# Altium footprint library MISC.PcbLib: 28 footprints (part 2 of 2)
Each footprint in its own frame and in the unit in brackets; x right, y up, seen from the top. Pads: shape width x height; smd on the part's side, far side on the other; paste and mask are expansions set on the pad; w line width, h text height; cw(c..) or ccw(c..) is an arc to the next point about the centre after c.
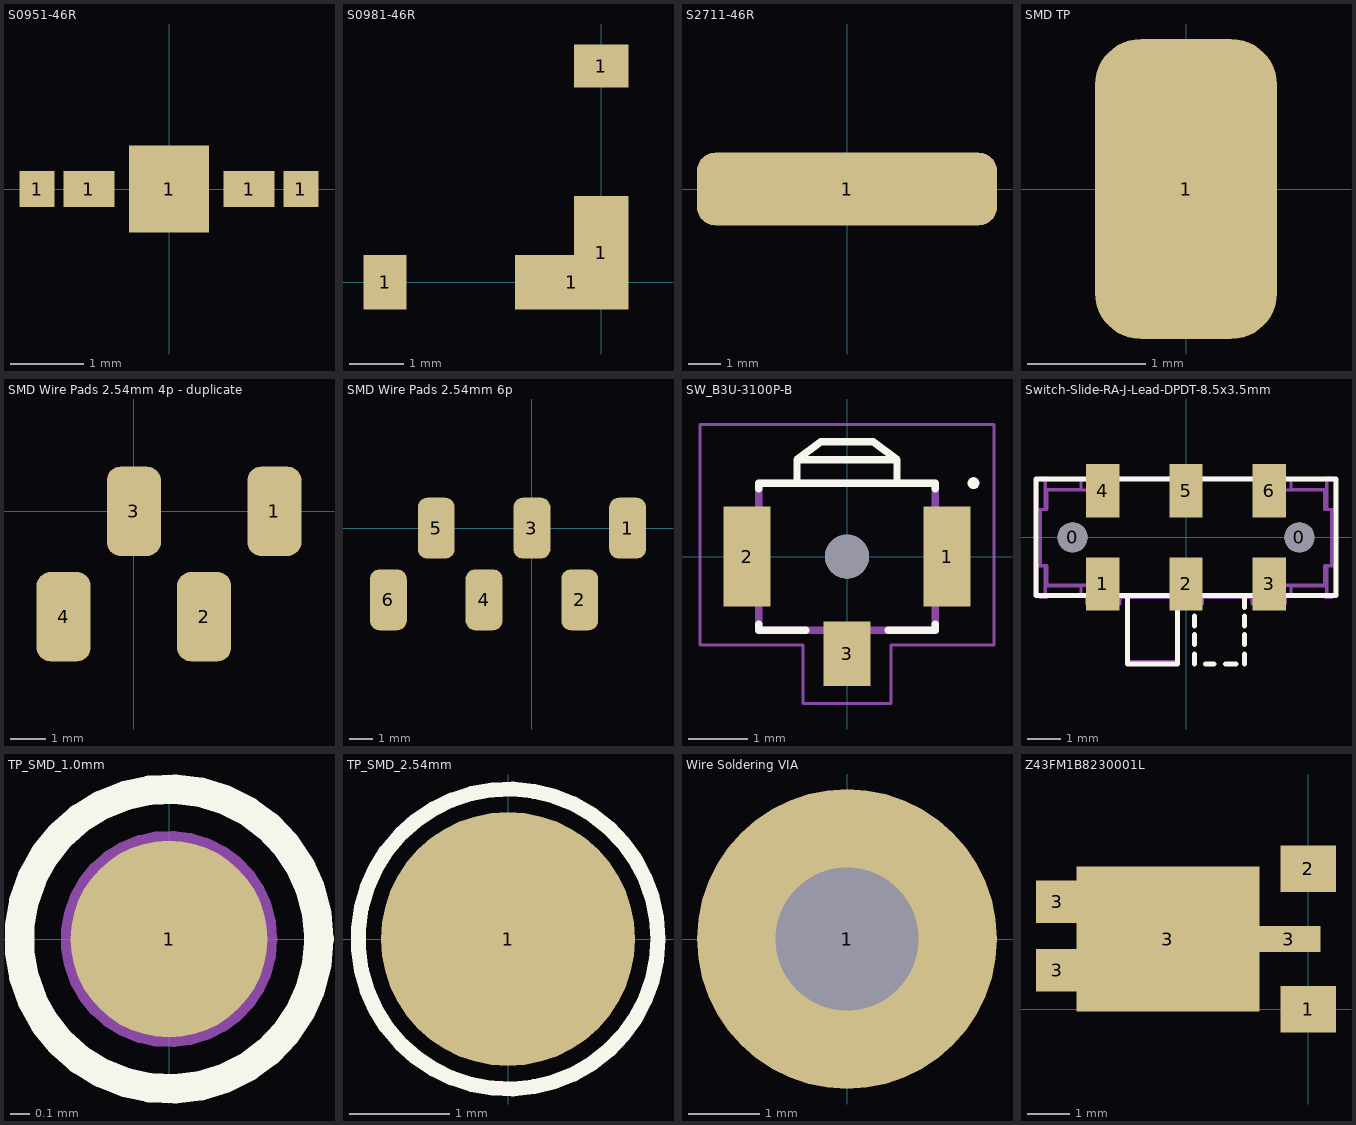
[diagram p1: the footprints below, top view; thin cyan lines are the x and y axes]

## S0951-46R [mm] "Shield Clip"
pads (5):
  rect 0.48x0.5 smd: 1(-1.81,0) 1(1.81,0)
  rect 0.7x0.5 smd: 1(-1.1,0) 1(1.1,0)
  rect 1.1x1.2 smd: 1(0,0)
3D body "s0951-46.stp": height 1.28, standoff 0, extent -1.95,-0.55 1.95,0.55

## S0981-46R [mm] "Shield Clip"
pads (4):
  rect 0.8x1 smd: 1(-4,0)
  rect 2.1x1 smd: 1(-0.55,0)
  rect 1x2.1 smd: 1(0,0.55)
  rect 1x0.8 smd: 1(0,4)
3D body "s0981-46.stp": height 1.35, standoff 0, extent -4.3,-0.455 0.455,4.3

## S2711-46R [mm] "Shielding can clip 0.17mm to 0.3mm"
pads (1):
  rrect50% 9.4x2.28 smd: 1(0,0)
3D body "s2711-46r.stp": height 3.45, standoff 0, extent -4.494,-1.14 4.494,1.14

## SMD TP [mm]
pads (1):
  rrect50% 1.54x2.54 smd: 1(0,0)

## SMD Wire Pads 2.54mm 4p - duplicate [mm]
pads (4):
  rrect50% 1.54x2.54 smd: 1(4,0) 2(2,-3) 3(0,0) 4(-2,-3)

## SMD Wire Pads 2.54mm 6p [mm]
pads (6):
  rrect50% 1.54x2.54 smd: 1(4,0) 2(2,-3) 3(0,0) 4(-2,-3) 5(-4,0) 6(-6,-3)

## SW_B3U-3100P-B [mm]
pads (4):
  rect 0.8x1.7 smd: 1(1.7,0) 2(-1.7,0)
  rect 0.8x1.1 smd: 3(0,-1.65)
  round 0.75 hole 0.75 unplated: ""(0,0)
Top Overlay:
  circle w0.1: c2.15,1.25 r0.05
  lines w0.127: -1.5,-1.15 -1.5,-1.25 -0.7,-1.25 ; -1.5,1.15 -1.5,1.25 -0.85,1.25 ; 0.7,-1.25 1.5,-1.25 1.5,-1.15 ; 1.5,1.15 1.5,1.25 0.85,1.25 ; -0.85,1.25 -0.85,1.65 ; -0.85,1.25 0.85,1.25 ; -0.85,1.65 -0.45,1.95 0.45,1.95 0.85,1.65 ; -0.85,1.65 0.85,1.65 ; 0.85,1.25 0.85,1.65
Mechanical 13:
  lines w0.127: -1.5,-1.25 -1.5,1.25 1.5,1.25 1.5,-1.25 -1.5,-1.25
Mechanical 15:
  lines w0.05: -2.5,-1.5 -2.5,2.25 2.5,2.25 2.5,-1.5 0.75,-1.5 0.75,-2.5 -0.75,-2.5 -0.75,-1.5 -2.5,-1.5
3D body "B3U-3100P-B.step": height 1.2, standoff -0.5, extent -2,-1.9 2,1.95

## Switch-Slide-RA-J-Lead-DPDT-8.5x3.5mm [mm]
pads (8):
  round 0.9 hole 0.9 unplated: 0(-3.4,0) 0(3.4,0)
  rect 1x1.6 smd: 1(-2.5,-1.4) 2(0,-1.4) 3(2.5,-1.4) 4(-2.5,1.4) 5(0,1.4) 6(2.5,1.4)
Top Overlay:
  lines w0.152: -1.75,-1.75 -1.75,-3.8 -0.25,-3.8 -0.25,-1.75 ; 0.25,-3.8 0.25,-3.5 ; 0.25,-3.22 0.25,-2.92 ; 0.25,-2.66 0.25,-2.36 ; 0.25,-2.1 0.25,-1.75 ; 0.59,-3.8 0.84,-3.8 ; 1.19,-3.8 1.44,-3.8 ; 1.2,-3.8 1.5,-3.8 ; 1.75,-3.8 1.75,-3.5 ; 1.75,-3.22 1.75,-2.92 ; 1.75,-2.66 1.75,-2.36 ; 1.75,-2.1 1.75,-1.75 ; -4.5,-1.75 -4.5,1.75 4.5,1.75 4.5,-1.75 -4.5,-1.75
Mechanical 7:
  lines w0.1: -4.376,-1.747 -4.376,-1.797 -4.174,-1.797 -4.174,-1.747 ; -4.376,1.731 -4.376,1.781 -4.174,1.781 -4.174,1.731 ; -4.224,-1.747 -4.224,-0.853 ; -4.224,-1.449 -3.151,-1.449 -3.151,-1.747 ; -4.224,0.836 -4.224,1.731 ; -4.224,1.433 -3.151,1.433 -3.151,1.731 ; -2.982,-1.747 -2.982,-1.996 -1.988,-1.996 -1.988,-1.797 ; -2.783,-1.747 -2.783,-1.797 -2.772,-1.797 ; -2.783,1.731 -2.783,1.781 -2.772,1.781 ; -2.772,-1.747 -4.472,-1.747 -4.472,-0.853 -4.376,-0.853 ; -2.772,1.731 -4.472,1.731 -4.472,0.836 -4.376,0.836 ; -1.74,-1.797 -1.74,-3.735 -0.249,-3.735 -0.249,-1.797 ; -0.249,-1.996 0.496,-1.996 0.496,-1.797 ; 1.987,-1.797 1.987,-1.996 2.981,-1.996 2.981,-1.747 ; 2.77,-1.747 4.471,-1.747 4.471,-0.853 4.375,-0.853 ; 2.77,1.731 4.471,1.731 4.471,0.836 4.375,0.836 ; 2.782,-1.747 2.782,-1.797 2.77,-1.797 ; 2.782,1.731 2.782,1.781 2.77,1.781 ; 3.149,-1.747 3.149,-1.449 4.223,-1.449 ; 3.149,1.731 3.149,1.433 4.223,1.433 ; 4.173,-1.747 4.173,-1.797 4.375,-1.797 4.375,-1.747 ; 4.173,1.731 4.173,1.781 4.375,1.781 4.375,1.731 ; 4.223,-1.747 4.223,-0.853 ; 4.223,0.836 4.223,1.731 ; -4.376,-0.853 -4.376,0.836 ; -4.376,-0.853 -4.168,-0.853 -4.168,-1.434 -2.772,-1.434 -2.772,-1.797 ; -4.376,0.836 -4.168,0.836 -4.168,1.418 -2.772,1.418 -2.772,1.781 ; -2.772,-1.797 2.77,-1.797 ; -2.772,1.781 2.77,1.781 ; 2.77,-1.797 2.77,-1.434 4.166,-1.434 4.166,-0.853 4.375,-0.853 ; 2.77,1.781 2.77,1.418 4.166,1.418 4.166,0.836 4.375,0.836 ; 4.375,-0.853 4.375,0.836
  text ".Designator" at -0.9,-0.2 h0.38
3D body "CL-SB-22A-11T.stp": height 3.5, standoff 0, extent -4.25,-3.75 4.25,1.75

## TP_SMD_1.0mm [mm]
pads (1):
  round 1 smd paste-5: 1(0,0)
Top Overlay:
  circle w0.15: c0,0 r0.762
Mechanical 7:
  circle w0.1: c0,0 r0.5
  circle w0.1: c0,0 r0.762

## TP_SMD_2.54mm [mm] "100mils"
pads (1):
  round 2.54 smd paste-5: 1(0,0)
Top Overlay:
  circle w0.15: c0,0 r1.5
Mechanical 7:
  circle w0.1: c0,0 r1.5
  circle w0.1: c0,0 r1.5
  text ".Designator" at 0.127,0.294 h0.5

## Wire Soldering VIA [mm] "14 AWG"
pads (1):
  round 4.2 hole 2: 1(0,0)

## Z43FM1B8230001L [mm] "SMD Vibration Motor"
pads (6):
  rect 1.3x1.1 smd: 1(0,0) 2(0,3.3)
  rect 1x1 smd: 3(-5.895,0.918) 3(-5.895,2.528)
  rect 4.3x3.4 smd: 3(-3.3,1.65)
  rect 1.5x0.6 smd: 3(-0.46,1.65)
3D body "Z43FM1B8230001L.STEP": height 3.48, standoff 0, extent -10.388,-0.49 1.61,3.91